# EAGLE library part ST1S10 (library Misaka-IC)
3A, 900kHz monolithic synchronous step-down regulator IC Input voltage: 2.5...18V Max output current: 3A Switching frequency: 0.4...1.2MHz Typical efficiency: 0.9
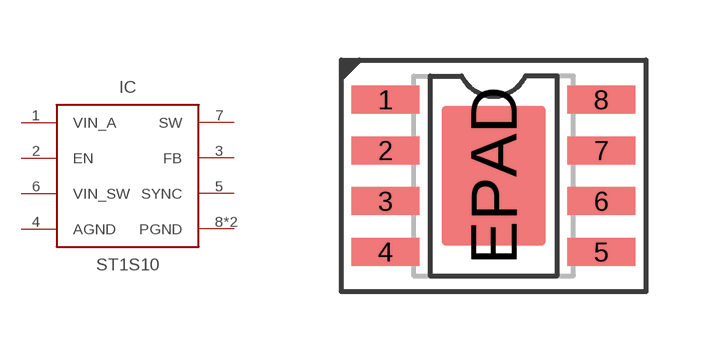
[diagram p8: symbol with the pads of POWERSO-8; footprint POWERSO-8]

Designator prefix IC

## ST1S10PHR  [POWERSO-8]
1  VIN_A  pwr
2  EN  in
3  FB  in
4  AGND  pwr
5  SYNC  in
6  VIN_SW  pwr
7  SW  out
8  PGND  pwr
EPAD  PGND  pwr

## Footprint POWERSO-8 (pad centres in mm)
Small-Outline Integrated Circuit 150 mil body
smd 1.7 x 0.7: 1 -2.7,1.905; 2 -2.7,0.635; 3 -2.7,-0.635; 4 -2.7,-1.905; 5 2.7,-1.905; 6 2.7,-0.635; 7 2.7,0.635; 8 2.7,1.905
smd 2.6 x 3.5: EPAD 0,0